# EAGLE library part SN65MLVD200A (library GadgetFactory_v1)
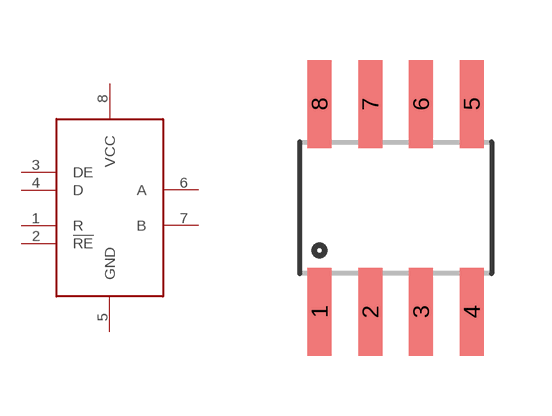
[diagram p21: symbol with the pads of SO8; footprint SO8]

Designator prefix U

## SN65MLVD200AD  [SO8]
1  R
2  !RE
3  DE
4  D
5  GND  pas
6  A
7  B
8  VCC  pwr

## Footprint SO8 (pad centres in mm)
8-Lead Small Outline IC (SO-8) Source: http://www.analog.com/UploadedFiles/Data_Sheets/703465986AD8611_2_0.pdf
smd 0.6 x 2.2: 1 -1.905,-2.6; 2 -0.635,-2.6; 3 0.635,-2.6; 4 1.905,-2.6; 5 1.905,2.6; 6 0.635,2.6; 7 -0.635,2.6; 8 -1.905,2.6